# Altium schematic symbol library 01_Basic.SchLib: 11 symbols
Pins are listed as number, name and electrical type; pins without a type are passive.

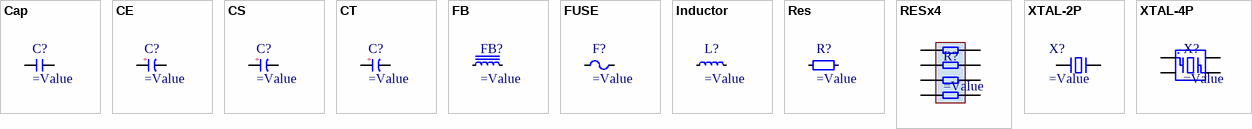
[diagram p0: symbols Cap to XTAL-4P]

## Cap
designator C?
电容
pins: 1, 2

## CE
designator C?
电解电容
pins: 1, 2
text: +

## CS
designator C?
固态电容
pins: 1, 2
text: +

## CT
designator C?
钽电容
pins: 1, 2
text: +

## FB
designator FB?
磁珠
pins: 1, 2

## FUSE
designator F?
保险丝/熔断器
pins: 1, 2

## Inductor
designator L?
电感
pins: 1, 2

## Res
designator R?
电阻
pins: 1, 2

## RESx4
designator R?
排阻-1x4
pins: 1, 2, 3, 4, 5, 6, 7, 8

## XTAL-2P
designator X?
无源晶振-2脚
pins: 1, 2

## XTAL-4P
designator X?
无源晶振-4脚
pins: 1 OSC1, 2 GND, 3 OSC2, 4 GND